# Altium footprint library SMD_Generic.PcbLib: 5 footprints
Each footprint in its own frame and in the unit in brackets; x right, y up, seen from the top. Pads: shape width x height; smd on the part's side, far side on the other; paste and mask are expansions set on the pad; w line width, h text height; cw(c..) or ccw(c..) is an arc to the next point about the centre after c.
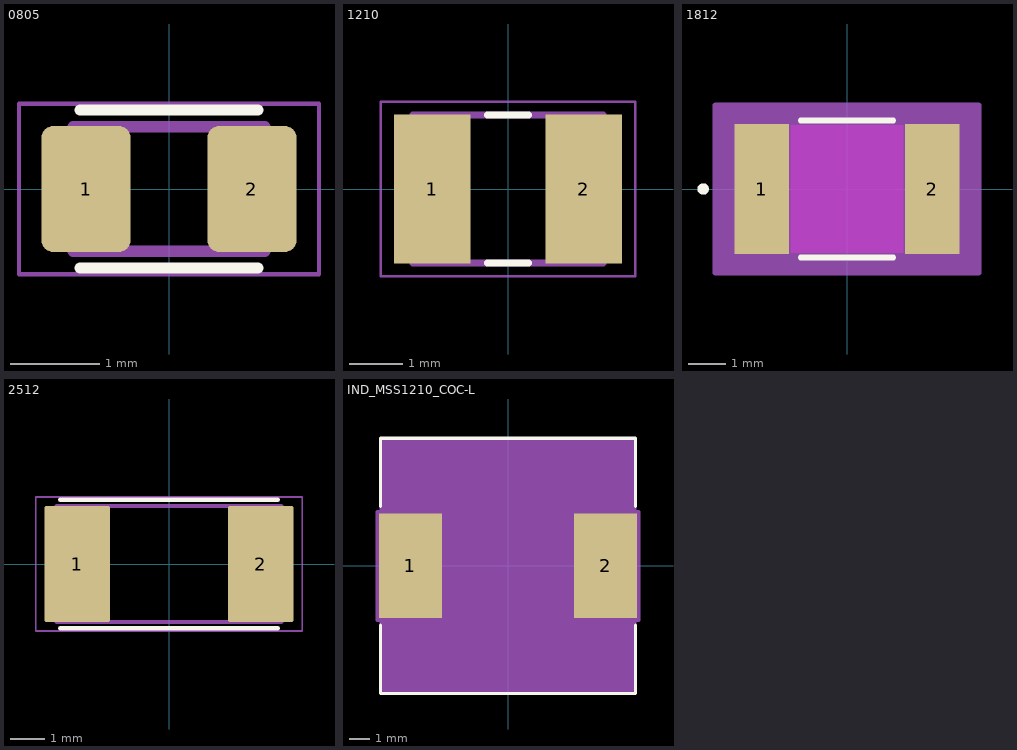
[diagram p0: the footprints below, top view; thin cyan lines are the x and y axes]

## 0805 [mm]
pads (2):
  rrect25% 1x1.42 smd: 1(-0.935,0) 2(0.935,0)
Top Overlay:
  lines w0.127: -1,-0.89 1,-0.89 ; -1,0.89 1,0.89
Mechanical 13:
  lines w0.127: -1.08,-0.7 1.08,-0.7 1.08,0.7 -1.08,0.7 -1.08,-0.7
Mechanical 15:
  lines w0.05: -1.69,-0.96 1.69,-0.96 1.69,0.96 -1.69,0.96 -1.69,-0.96
3D body "step_temp.STEP": height 0.6, standoff 0, extent -1,-0.625 1,0.625

## 1210 [mm]
pads (2):
  rect 1.45x2.81 smd: 1(-1.43,0) 2(1.43,0)
Top Overlay:
  lines w0.127: -0.39,-1.4 0.39,-1.4 ; -0.39,1.4 0.39,1.4
Mechanical 13:
  lines w0.127: -1.8,-1.4 -1.8,1.4 1.8,1.4 1.8,-1.4 -1.8,-1.4
Mechanical 15:
  lines w0.05: -2.404,-1.65 -2.404,1.65 2.404,1.65 2.404,-1.65 -2.404,-1.65

## 1812 [mil]
pads (2):
  rect 57x136 smd paste+0 mask+0: 1(-89.5,0) 2(89.5,0)
Top Layer keep-out:
  region: -59,-65 -59,65 59,65 59,-65
Top Overlay:
  circle w6: c-151,0 r3
  lines w6: -48.53,-72 48.53,-72 ; -48.53,72 48.53,72
Keep-Out Layer:
  region: -59,-67 -59,67 59,67 59,-67
Mechanical 13:
  circle w0: c-84.5,0 r3
  lines w1: -96,-67 -96,67 ; -96,-67 -61,-67 -61,67 -96,67 ; -96,-67 96,-67 ; -96,-67 -96,67 ; -96,67 96,67 ; 96,-67 61,-67 61,67 96,67 ; 96,-67 96,67 ; 96,-67 96,67
Mechanical 15:
  region: 138,-88 -138,-88 -138,88 138,88
  lines w6: -138,-88 -138,88 138,88 138,-88 -138,-88
3D body "CAP_2MFFAT4X_VIS.step": height 85.98, standoff 0, extent -95.98,-67.01 95.98,67.01

## 2512 [mm]
pads (2):
  rrect7% 1.9x3.37 smd: 1(-2.66,0) 2(2.66,0)
Top Overlay:
  lines w0.127: -3.15,-1.865 3.15,-1.865 ; -3.15,1.865 3.15,1.865
Mechanical 13:
  lines w0.127: -3.25,-1.68 3.25,-1.68 3.25,1.68 -3.25,1.68 -3.25,-1.68
Mechanical 15:
  lines w0.05: -3.86,-1.94 3.86,-1.94 3.86,1.94 -3.86,1.94 -3.86,-1.94
3D body "2-1625827-1.STEP": height 0.65, standoff 0, extent -3.048,-1.727 3.302,1.473

## IND_MSS1210_COC-L [mil]
pads (2):
  rect 122x203 smd paste+0 mask+0: 1(-189,0) 2(189,0)
Top Overlay:
  lines w6: -247,-114.6 -247,-247 247,-247 247,-114.6 ; -247,114.6 -247,247 247,247 247,114.6
Mechanical 13:
  circle w0: c-128,0 r3
  lines w0: -12,242 ccw(c0,242) 12,242
  lines w1: -242,-242 -242,242 242,242 242,-242 -242,-242
Mechanical 15:
  region: -246,-105.5 -254,-105.5 -254,105.5 -246,105.5 -246,246 246,246 246,105.5 254,105.5 254,-105.5 246,-105.5 246,-246 -246,-246
  lines w6: -254,-105.5 -246,-105.5 -246,-246 246,-246 246,-105.5 254,-105.5 254,105.5 246,105.5 246,246 -246,246 -246,105.5 -254,105.5 -254,-105.5
3D body "IND_MSS1210_COC.step": height 402.09, standoff 0, extent -242.01,-242.01 242.01,242.01